# EAGLE library part TLV62090 (library bodger)
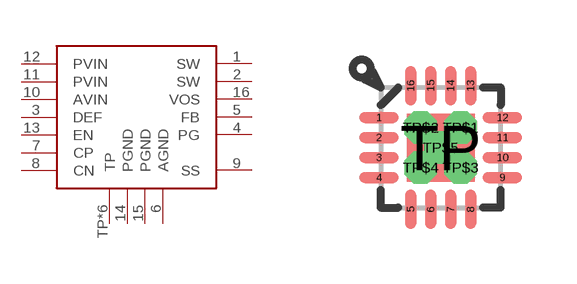
[diagram p44: symbol with the pads of QFN16T; footprint QFN16T]

Designator prefix -

## TLV62090RGT  [QFN16T]
1  SW  out
2  SW  out
3  DEF  in
4  PG  out
5  FB  in
6  AGND  pwr
7  CP
8  CN
9  SS
10  AVIN  pwr
11  PVIN  pwr
12  PVIN  pwr
13  EN  in
14  PGND  pwr
15  PGND  pwr
16  VOS  in
TP  TP  pwr
TP$1  TP  pwr
TP$2  TP  pwr
TP$3  TP  pwr
TP$4  TP  pwr
TP$5  TP  pwr

## Footprint QFN16T (pad centres in mm)
16 pin quad flatpack no-lead with thermal pad
smd 0.99 x 0.28: 1 -1.545,0.75; 2 -1.545,0.25; 3 -1.545,-0.25; 4 -1.545,-0.75; 9 1.545,-0.75; 10 1.545,-0.25; 11 1.545,0.25; 12 1.545,0.75
smd 0.28 x 0.99: 5 -0.75,-1.545; 6 -0.25,-1.545; 7 0.25,-1.545; 8 0.75,-1.545; 13 0.75,1.545; 14 0.25,1.545; 15 -0.25,1.545; 16 -0.75,1.545
smd 1.7 x 1.7: TP 0,0
drill 0.3 octagon: TP$1 0.5,0.5; TP$2 -0.5,0.5; TP$3 0.5,-0.5; TP$4 -0.5,-0.5; TP$5 0,0